# Altium footprint library Standard.PcbLib: 22 footprints (part 1 of 2)
Each footprint in its own frame and in the unit in brackets; x right, y up, seen from the top. Pads: shape width x height; smd on the part's side, far side on the other; paste and mask are expansions set on the pad; w line width, h text height; cw(c..) or ccw(c..) is an arc to the next point about the centre after c.
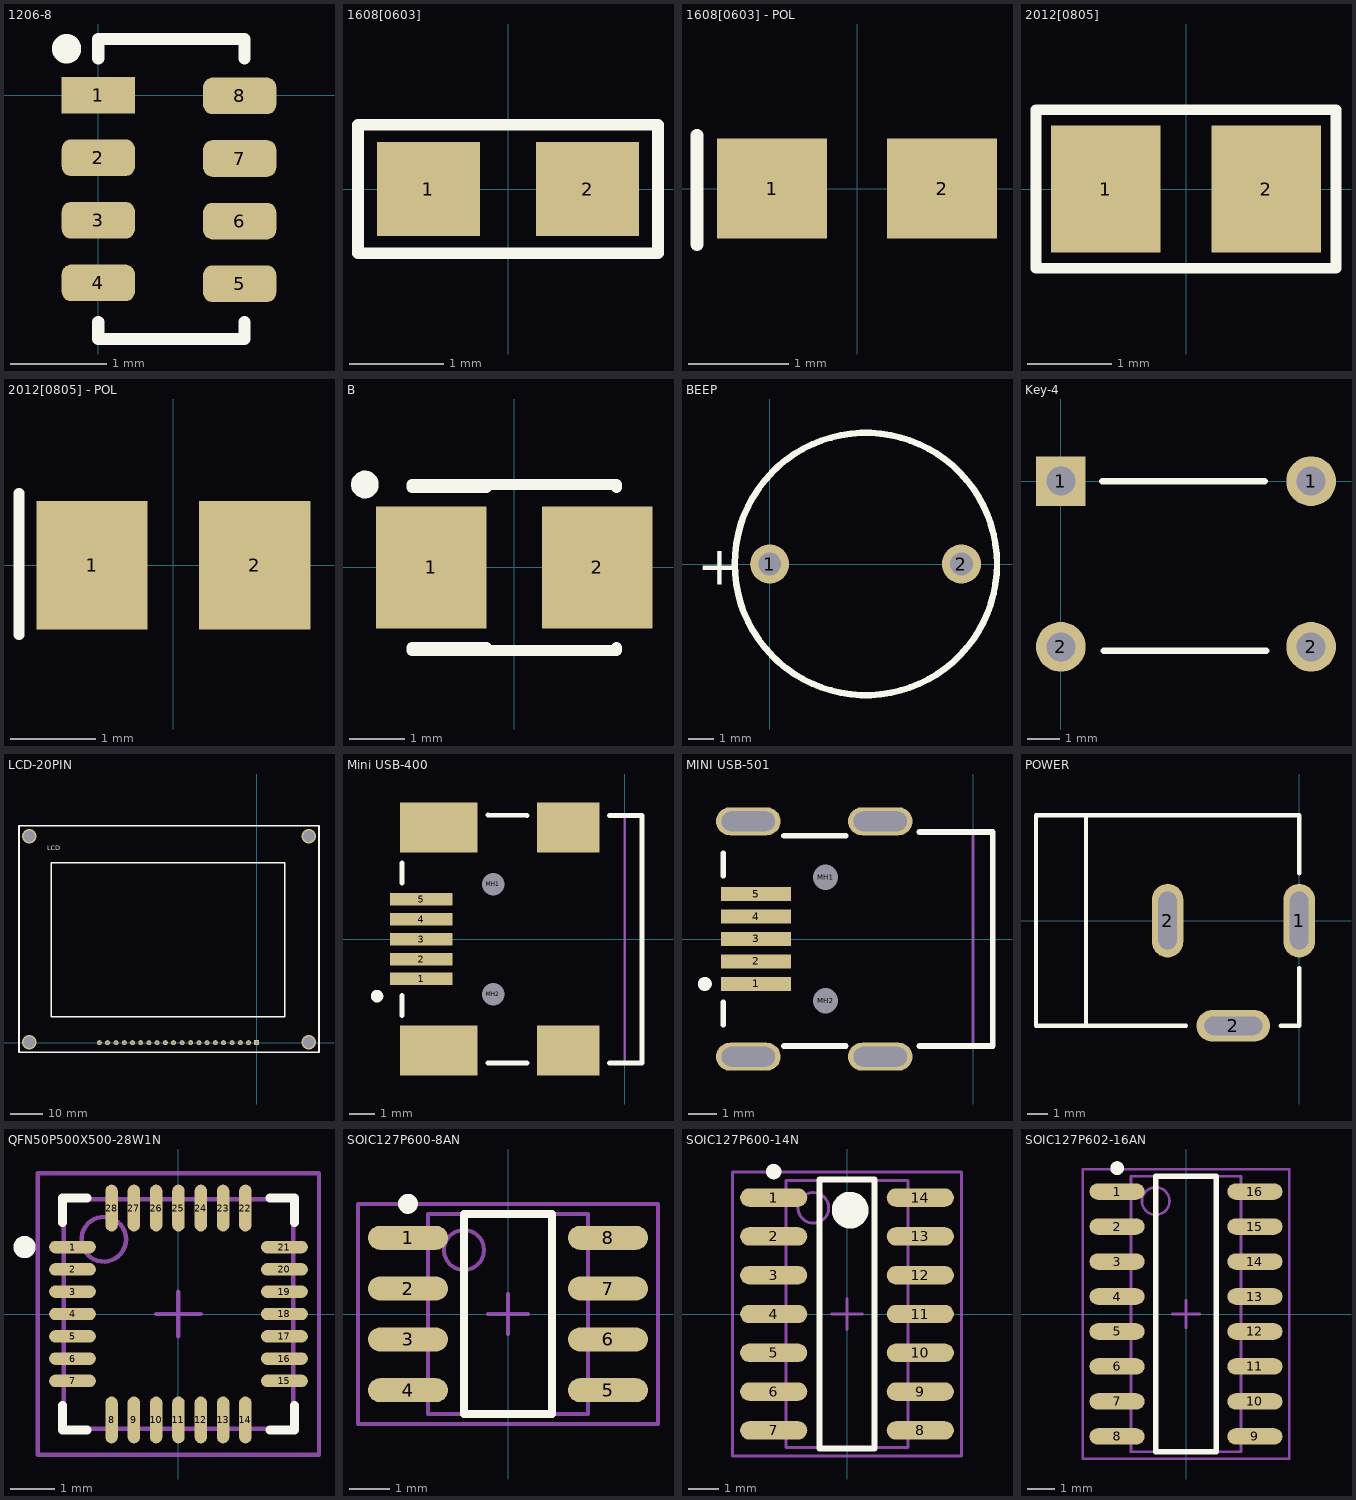
[diagram p0: the footprints below, top view; thin cyan lines are the x and y axes]

## 1206-8 [mil]
pads (8):
  rect 30x15 smd: 1(0,0)
  rrect50% 30x15 smd: 2(0,-25.67) 3(0,-51.33) 4(0,-77) 5(58,-77.33) 6(58,-51.67) 7(58,-26) 8(58,-0.33)
Top Overlay:
  circle w10: c-13,19 r1
  lines w5: 0,-93 0,-100 60,-100 60,-93 ; 0,15 0,23 60,23 60,15

## 1608[0603] [mm] "Chip Capacitor; Body 1.6 x 0.8 mm (LxW typ)"
height 1.35
pads (2):
  rect 1.1x1 smd: 1(-0.85,0) 2(0.85,0)
Top Overlay:
  lines w0.127: -1.6,0.686 -1.6,-0.686 1.6,-0.686 1.6,0.686 ; -1.575,0.686 1.575,0.686

## 1608[0603] - POL [mm] "Chip Capacitor; Body 1.6 x 0.8 mm (LxW typ)"
height 1.35
pads (2):
  rect 1.1x1 smd: 1(-0.85,0) 2(0.85,0)
Top Overlay:
  lines w0.127: -1.6,-0.559 -1.6,0.533

## 2012[0805] [mm] "Chip Resistor; Body 2.0 x 1.3 mm (LxW typ)"
height 2.54
pads (2):
  rect 1.3x1.5 smd: 1(-0.95,0) 2(0.95,0)
Top Overlay:
  lines w0.127: -1.778,-0.94 -1.778,0.94 1.778,0.94 1.778,-0.94 -1.778,-0.94

## 2012[0805] - POL [mm] "Chip Resistor; Body 2.0 x 1.3 mm (LxW typ)"
height 2.54
pads (2):
  rect 1.3x1.5 smd: 1(-0.95,0) 2(0.95,0)
Top Overlay:
  lines w0.127: -1.803,-0.813 -1.803,0.838

## B [mm] "Capacitor, SM Tantalum; Body 3.5 x 2.8 mm (LxW typ)"
height 2.1
pads (2):
  rect 2x2.2 smd: 1(-1.5,0) 2(1.5,0)
Top Overlay:
  circle w0.25: c-2.7,1.5 r0.125
  lines w0.2: -1.85,-1.5 1.85,-1.5 1.85,-1.45 ; -1.85,-1.45 -0.5,-1.45 ; -1.85,1.45 -0.5,1.45 ; -1.85,1.5 1.85,1.5 1.85,1.45

## BEEP [mil]
pads (2):
  round 60 hole 35: 1(0,0) 2(295.28,0)
Top Overlay:
  circle w10: c148,0 r202
  text "+" at -112,-32 h60

## Key-4 [mil]
pads (4):
  rect 60x60 hole 35: 1(0,0)
  round 60 hole 35: 1(302.36,0) 2(0,-200) 2(302.36,-200)
Top Overlay:
  lines w7.87: 50,0 246,0 ; 52,-205 248,-205

## LCD-20PIN [mil]
pads (20):
  rect 60x60 hole 35: 1(0,0)
  round 60 hole 35: 2(-100,0) 3(-200,0) 4(-300,0) 5(-405,0) 6(-505,0) 7(-605,0) 8(-705,0) 9(-805,0) 10(-910,0) 11(-1015,0) 12(-1115,0) 13(-1215,0) 14(-1315,0) 15(-1415,0) 16(-1515,0) 17(-1615,0) 18(-1715,0) 19(-1820,0) 20(-1920,0)
via -2775,2520 diameter 177.17 hole 137.8
via 635,2520 diameter 177.17 hole 137.8
via 635,5 diameter 177.17 hole 137.8
via -2775,5 diameter 177.17 hole 137.8
Top Overlay:
  lines w20: -2900,-115 760,-115 760,2645 -2900,2645 -2900,-115 ; -2505,320 -2500,315 340,315 340,2195 -2505,2195 -2505,320
  text "LCD" at -2555,2345 h60
3D body: height 2362.2, standoff 1968.5, extent -2899.43,-116 761,2644.43

## Mini USB-400 [mm]
pads (11):
  rect 2.5x0.5 smd: 1(-8.128,-1.6) 2(-8.128,-0.8) 3(-8.128,0) 4(-8.128,0.8) 5(-8.128,1.6)
  round 0.6 hole 0.9 unplated: MH1(-5.25,2.2) MH2(-5.25,-2.2)
  rect 3.1x2 smd: ""(-7.442,-4.45) ""(-7.442,4.45)
  rect 2.5x2 smd: ""(-2.25,-4.45) ""(-2.25,4.45)
Top Overlay:
  circle w0.25: c-9.904,-2.286 r0.125
  lines w0.2: -8.9,-3.05 -8.9,-2.25 ; -8.9,2.25 -8.9,3.05 ; -5.461,-4.953 -3.9,-4.95 ; -5.461,4.953 -3.9,4.95 ; -0.6,-4.95 0.7,-4.95 0.7,4.95 -0.6,4.95
Mechanical 1:
  lines w0.1: 0,-4.95 0,4.95
  text "PCB Edge" at 0.433,-4.036 h0.25

## MINI USB-501 [mm]
pads (11):
  rect 2.5x0.5 smd: 1(-7.723,-1.6) 2(-7.723,-0.8) 3(-7.723,0) 4(-7.723,0.8) 5(-7.723,1.6)
  round 0.6 hole 0.9 unplated: MH1(-5.25,2.2) MH2(-5.25,-2.2)
  oval 2.3x1 hole 0.7 slot 1.9 at 0 deg: ""(-8.001,-4.191) ""(-8.001,4.191) ""(-3.302,-4.191) ""(-3.302,4.191)
Top Overlay:
  circle w0.25: c-9.55,-1.6 r0.125
  lines w0.2: -8.9,-3.05 -8.9,-2.25 ; -8.9,2.25 -8.9,3.05 ; -6.731,-3.81 -4.531,-3.81 ; -6.731,3.683 -4.531,3.683 ; -1.905,-3.81 0.7,-3.81 0.7,3.81 -1.905,3.81
Mechanical 1:
  lines w0.1: 0,-3.81 0,3.81
  text "PCB Edge" at 0.433,-4.036 h0.25

## POWER [mil]
pads (3):
  oval 60x140 hole 35 slot 110 at 90 deg: 1(0,0) 2(-250,0)
  oval 140x60 hole 35 slot 110 at 0 deg: 2(-125,-200)
Top Overlay:
  lines w8: -405,-200 -405,200 ; -215,-200 -500,-200 -500,200 0,200 0,90 ; -35,-200 0,-200 0,-90

## QFN50P500X500-28W1N [mm] "QFN, 28-Leads, Body 5x5mm, Pitch 0.5mm, IPC Medium Density"
height 0.8
pads (28):
  oval 1.05x0.279 smd: 1(-2.375,1.5) 2(-2.375,1) 3(-2.375,0.5) 4(-2.375,0) 5(-2.375,-0.5) 6(-2.375,-1) 7(-2.375,-1.5) 15(2.375,-1.5) 16(2.375,-1) 17(2.375,-0.5) 18(2.375,0) 19(2.375,0.5) 20(2.375,1) 21(2.375,1.5)
  oval 0.279x1.05 smd: 8(-1.5,-2.375) 9(-1,-2.375) 10(-0.5,-2.375) 11(0,-2.375) 12(0.5,-2.375) 13(1,-2.375) 14(1.5,-2.375) 22(1.5,2.375) 23(1,2.375) 24(0.5,2.375) 25(0,2.375) 26(-0.5,2.375) 27(-1,2.375) 28(-1.5,2.375)
Top Overlay:
  circle w0.25: c-3.45,1.5 r0.125
  lines w0.2: -2.6,-2.05 -2.6,-2.6 -2.05,-2.6 ; -2.6,2.05 -2.6,2.6 -2.05,2.6 ; 2.05,-2.6 2.6,-2.6 2.6,-2.05 ; 2.05,2.6 2.6,2.6 2.6,2.05
Mechanical 13:
  circle w0.1: c-1.675,1.675 r0.5
  lines w0.1: -2.575,-2.575 -2.575,2.575 2.575,2.575 2.575,-2.575 -2.575,-2.575
Mechanical 15:
  lines w0.1: -0.5,0 0.5,0 ; 0,-0.5 0,0.5 ; -3.15,-3.15 -3.15,3.15 3.15,3.15 3.15,-3.15 -3.15,-3.15
3D body: height 0.8, standoff 0, extent -2.575,-2.575 2.575,2.575

## SOIC127P600-8AN [mm] "SOIC, 8-Leads, Body 4.9x3.9mm, Pitch 1.27mm, IPC Medium Density"
height 2.72
pads (8):
  oval 2x0.6 smd: 1(-2.5,1.905) 2(-2.5,0.635) 3(-2.5,-0.635) 4(-2.5,-1.905) 5(2.5,-1.905) 6(2.5,-0.635) 7(2.5,0.635) 8(2.5,1.905)
Top Overlay:
  circle w0.25: c-2.5,2.755 r0.125
  lines w0.2: -1.1,-2.5 1.1,-2.5 1.1,2.5 -1.1,2.5 -1.1,-2.5
Mechanical 13:
  circle w0.1: c-1.1,1.6 r0.5
  lines w0.1: -2,-2.5 2,-2.5 2,2.5 -2,2.5 -2,-2.5
Mechanical 15:
  lines w0.1: -0.5,0 0.5,0 ; 0,-0.5 0,0.5 ; -3.75,-2.75 3.75,-2.75 3.75,2.75 -3.75,2.75 -3.75,-2.75
3D body: height 2.72, standoff 0, extent -2,-2.5 2,2.5

## SOIC127P600-14N [mm] "SOIC, 14-Leads, Body 8.7x3.9mm, Pitch 1.27mm, IPC Medium Density"
height 1.75
pads (14):
  oval 2.2x0.6 smd: 1(-2.4,3.81) 2(-2.4,2.54) 3(-2.4,1.27) 4(-2.4,0) 5(-2.4,-1.27) 6(-2.4,-2.54) 7(-2.4,-3.81) 8(2.4,-3.81) 9(2.4,-2.54) 10(2.4,-1.27) 11(2.4,0) 12(2.4,1.27) 13(2.4,2.54) 14(2.4,3.81)
Top Overlay:
  circle w0.6: c0.1,3.4 r0.3
  circle w0.25: c-2.4,4.66 r0.125
  lines w0.2: -0.9,-4.4 0.9,-4.4 0.9,4.4 -0.9,4.4 -0.9,-4.4
Mechanical 13:
  circle w0.1: c-1.1,3.475 r0.5
  lines w0.1: -2,-4.375 2,-4.375 2,4.375 -2,4.375 -2,-4.375
Mechanical 15:
  lines w0.1: -0.5,0 0.5,0 ; 0,-0.5 0,0.5 ; -3.75,-4.65 3.75,-4.65 3.75,4.65 -3.75,4.65 -3.75,-4.65
3D body: height 1.75, standoff 0, extent -2,-4.375 2,4.375

## SOIC127P602-16AN [mm] "SOIC, 16-Leads, Body 9.9x3.9mm, Pitch 1.27mm, IPC Medium Density"
height 1.73
pads (16):
  oval 2x0.6 smd: 1(-2.5,4.445) 2(-2.5,3.175) 3(-2.5,1.905) 4(-2.5,0.635) 5(-2.5,-0.635) 6(-2.5,-1.905) 7(-2.5,-3.175) 8(-2.5,-4.445) 9(2.5,-4.445) 10(2.5,-3.175) 11(2.5,-1.905) 12(2.5,-0.635) 13(2.5,0.635) 14(2.5,1.905) 15(2.5,3.175) 16(2.5,4.445)
Top Overlay:
  circle w0.25: c-2.5,5.295 r0.125
  lines w0.2: -1.1,-5 1.1,-5 1.1,5 -1.1,5 -1.1,-5
Mechanical 13:
  circle w0.1: c-1.1,4.1 r0.5
  lines w0.1: -2,-5 2,-5 2,5 -2,5 -2,-5
Mechanical 15:
  lines w0.1: -0.5,0 0.5,0 ; 0,-0.5 0,0.5 ; -3.75,-5.25 3.75,-5.25 3.75,5.25 -3.75,5.25 -3.75,-5.25
3D body: height 1.73, standoff 0, extent -2,-5 2,5